# Altium integrated library custom_modulebit_Lib.IntLib: 41 symbols
Pins are listed as number, name and electrical type; pins without a type are passive.

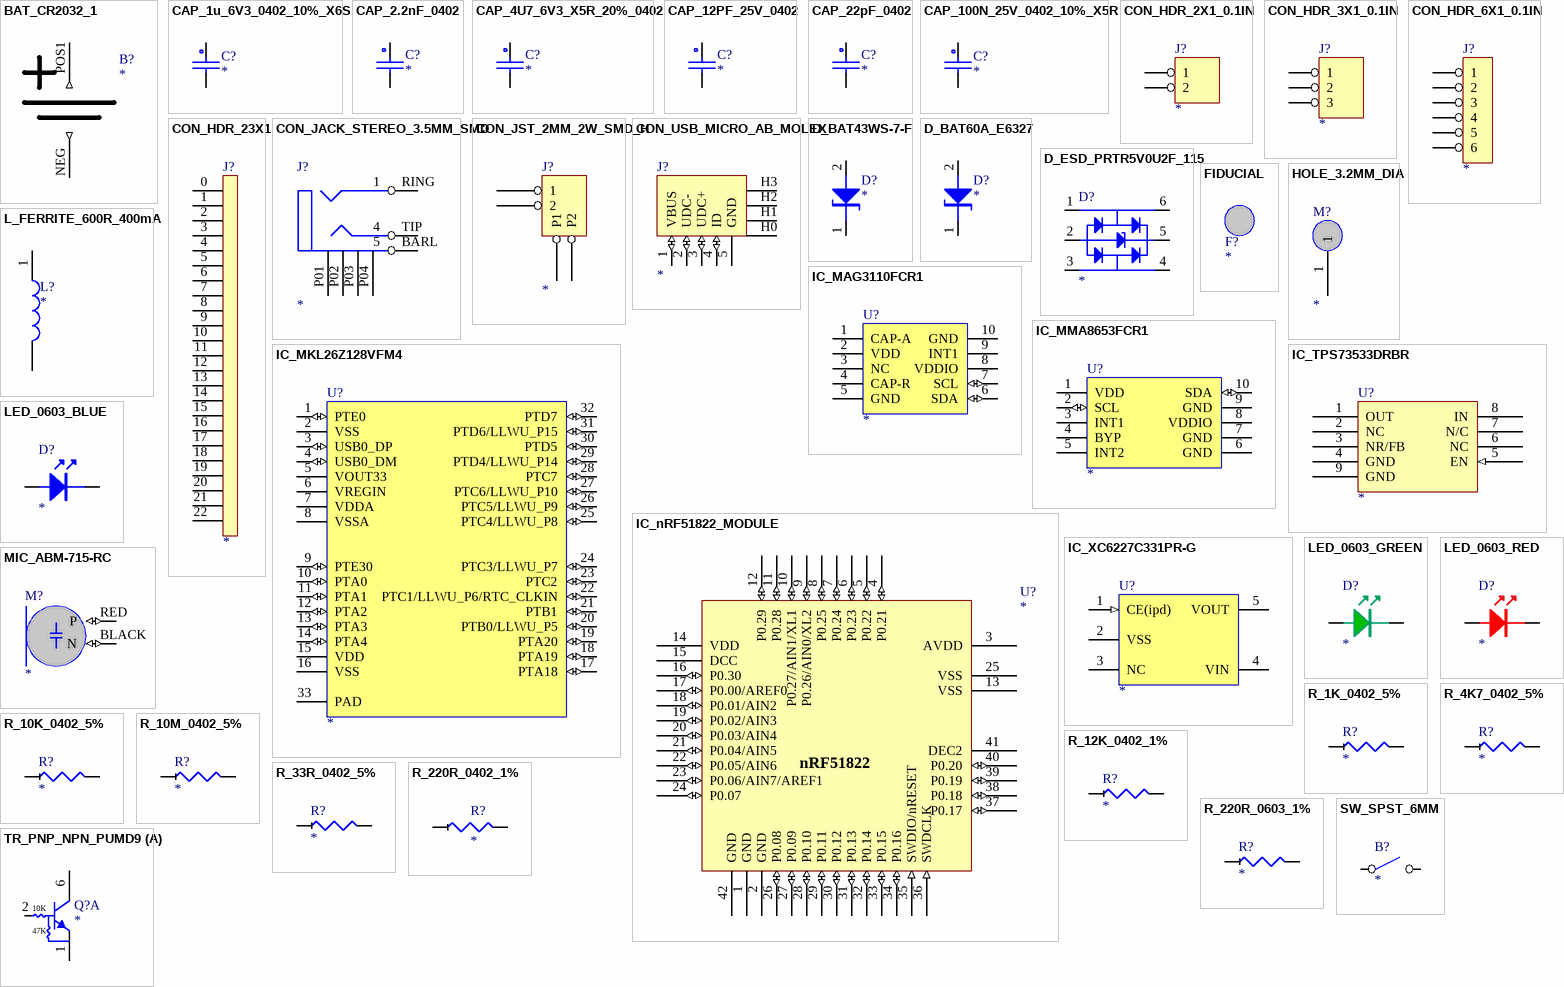
[diagram p0: symbols BAT_CR2032_1 to TR_PNP_NPN_PUMD9]

## BAT_CR2032_1
designator B?
CR2032 battery in holder; PART: *; MANUFACTURER: *; FARNELL: *; RS: *
footprint BAT_CR2032_CH7410-2032LF
pins: NEG (out), POS1 (out)
2 alternate drawings of the same symbol

## CAP_1u_6V3_0402_10%_X6S
designator C?
CAP_1u_6V3_0402_10%_X6S; MANUFACTURER: *; PART: *; FARNELL: *; MOUSER: *; DIGIKEY: *
footprint C_0402
pins: 1, 2
2 alternate drawings of the same symbol

## CAP_2.2nF_0402
designator C?
CAP_2.2nF_0402; FARNELL: *; PART: *; MANUFACTURER: *
footprint C_0402
pins: 1, 2
2 alternate drawings of the same symbol

## CAP_4U7_6V3_X5R_20%_0402
designator C?
CAP_4U7_6V3_X5R_20%_0402; PART: *; MANUFACTURER: *; FARNELL: *
footprint C_0805
footprint c_0402
pins: 1, 2
2 alternate drawings of the same symbol

## CAP_12PF_25V_0402
designator C?
CAP_12PF_25V_0402; FARNELL: *
footprint C_0402
pins: 1, 2
2 alternate drawings of the same symbol

## CAP_22pF_0402
designator C?
CAP 0402 C0G 50V 22PF; FARNELL: *; PART: *; MANUFACTURER: *
footprint c_0402
pins: 1, 2
2 alternate drawings of the same symbol

## CAP_100N_25V_0402_10%_X5R
designator C?
CAP_100N_25V_0402_10%_X5R; PART: *; MANUFACTURER: *; FARNELL: *
footprint C_0402
pins: 1, 2
2 alternate drawings of the same symbol

## CON_HDR_2X1_0.1IN
designator J?
2 PIN HEADER; FARNELL: *; MANUFACTURER: *; PART: *
footprint CON_HDR_2X1
pins: 1, 2
2 alternate drawings of the same symbol

## CON_HDR_3X1_0.1IN
designator J?
3 PIN HEADER; FARNELL: *; MANUFACTURER: *; PART: *
footprint CON_HDR_3X1
pins: 1, 2, 3
2 alternate drawings of the same symbol

## CON_HDR_6X1_0.1IN
designator J?
6 PIN HEADER; PART: *; FARNELL: *; MANUFACTURER: *
footprint CON_HDR_6X1
pins: 1, 2, 3, 4, 5, 6
2 alternate drawings of the same symbol

## CON_HDR_23X1
designator J?
0.1in HEADER STRIP 23X1; FARNELL: *; PART: *; MANUFACTURER: *
footprint CON_HDR_23X1
footprint CON_HDR_8X2_POL
pins: 0 (power), 1 (power), 2 (power), 3, 4, 5, 6, 7, 8, 9, 10, 11, 12, 13, 14, 15, 16, 17, 18, 19, 20, 21, 22
2 alternate drawings of the same symbol

## CON_JACK_STEREO_3.5MM_SMD
designator J?
3.5 MM STEREO SMT JACK SOCKET SMD; FARNELL: *; PART: *; MANUFACTURER: *
footprint CON_JACK_STEREO_3.5MM_SMT
pins: BARL, P01, P02, P03, P04, RING, TIP
2 alternate drawings of the same symbol
text: 1; 4; 5

## CON_JST_2MM_2W_SMD_H
designator J?
2 PIN 2MM SMT JST  CONNECTOR; PART: *; MANUFACTURER: *; DIGIKEY: *; FARNELL: *
footprint CON_JST_S2B-PH-SM4-TB
pins: 1, 2, P1, P2
2 alternate drawings of the same symbol

## CON_USB_MICRO_AB_MOLEX
designator J?
USB Micro-AB socket Molex 47589-0001; Farnell: *; PART: *; MANUFACTURER: *; RS: *
footprint CON_USB_MICRO_AB_MOLEX
pins: 1 VBUS (io), 2 UDC- (io), 3 UDC+ (io), 4 ID (io), 5 GND (power), H0 (power), H1 (power), H2 (power), H3 (power)
2 alternate drawings of the same symbol

## D_BAT43WS-7-F
designator D?
Schottky 200mA 30V 0.5uA@25Vr; FARNELL: *; MANUFACTURER: *; PART: *; DIGIKEY: *; MOUSER: *; RS: *
footprint SOD323
pins: 1 K, 2 A
2 alternate drawings of the same symbol

## D_BAT60A_E6327
designator D?
3A Schottky diode with extreme low V  F drop (typ. 0.12V at IF = 10mA); FARNELL: *; MANUFACTURER: *; PART: *
footprint SOD323
pins: 1 K, 2 A
2 alternate drawings of the same symbol

## D_ESD_PRTR5V0U2F_115
designator D?
Ultra low capacitance double rail-to-rail ESD protection; FARNELL: *; MANUFACTURER: *; PART: *
footprint SOT886
pins: 1, 2, 3, 4, 5, 6
2 alternate drawings of the same symbol

## FIDUCIAL
designator F?
FIDUCIAL - NO CONNECT; Text Field1: NOT A PART; NOFIT: *; MANUFACTURER: *; FARNELL: *; PART: *
footprint FIDUCIAL_OV
footprint FIDUCIAL_DIAG
pins: 1
2 alternate drawings of the same symbol

## HOLE_3.2MM_DIA
designator M?
HOLE, 3.2MM DIA FINISHED
footprint HOLE_3.2MM_DIA
pins: 1
2 alternate drawings of the same symbol

## IC_MAG3110FCR1
designator U?
Three-Axis Digital  Magnetometer; PART: *; MANUFACTURER: *; RS: *
footprint IC_QFN40P200X200X85-10M
pins: 1 CAP-A, 2 VDD (power), 3 NC, 4 CAP-R, 5 GND (power), 6 SDA (io), 7 SCL (io), 8 VDDIO (power), 9 INT1 (oc), 10 GND (power)
2 alternate drawings of the same symbol

## IC_MKL26Z128VFM4
designator U?
32bit ARM Cortex M0+ Microcontroller 48MHz 128 kB Flash 32-Pin QFN; PART: *; RS: *; MANUFACTURER: *
footprint IC_QFN50P500X500X100-32N
pins: 1 PTE0 (io), 2 VSS (power), 3 USB0_DP (io), 4 USB0_DM (io), 5 VOUT33 (power), 6 VREGIN (power), 7 VDDA (power), 8 VSSA (power), 9 PTE30 (io), 10 PTA0 (io), 11 PTA1 (io), 12 PTA2 (io), 13 PTA3 (io), 14 PTA4 (io), 15 VDD (power), 16 VSS (power), 17 PTA18 (io), 18 PTA19 (io), 19 PTA20 (io), 20 PTB0/LLWU_P5 (io), 21 PTB1 (io), 22 PTC1/LLWU_P6/RTC_CLKIN (io), 23 PTC2 (io), 24 PTC3/LLWU_P7 (io), 25 PTC4/LLWU_P8 (io), 26 PTC5/LLWU_P9 (io), 27 PTC6/LLWU_P10 (io), 28 PTC7 (io), 29 PTD4/LLWU_P14 (io), 30 PTD5 (io), 31 PTD6/LLWU_P15 (io), 32 PTD7 (io), 33 PAD (power)
2 alternate drawings of the same symbol

## IC_MMA8653FCR1
designator U?
3-Axis 10-bit Digital  Accelerometer; PART: *; MANUFACTURER: *; RS: *
footprint IC_QFN40P200X200X85-10M
pins: 1 VDD (power), 2 SCL (io), 3 INT1 (oc), 4 BYP, 5 INT2 (oc), 6 GND (power), 7 GND (power), 8 VDDIO (power), 9 GND (power), 10 SDA (io)
2 alternate drawings of the same symbol

## IC_nRF51822_MODULE
designator U?
RF System on a Chip - SoC 2.4GHz BT low Energy 256KB Flash 16KB Ram; MANUFACTURER: *; PART: *; FARNELL: *
footprint IC_nRF51822_MODULE
footprint IC_nRF51822_MODULE_PASTE
pins: 1 GND (power), 2 GND (power), 3 AVDD (power), 4 P0.21 (io), 5 P0.22 (io), 6 P0.23 (io), 7 P0.24 (io), 8 P0.25 (io), 9 P0.26/AIN0/XL2 (io), 10 P0.27/AIN1/XL1 (io), 11 P0.28 (io), 12 P0.29 (io), 13 VSS (power), 14 VDD (power), 15 DCC (power), 16 P0.30 (io), 17 P0.00/AREF0 (io), 18 P0.01/AIN2 (io), 19 P0.02/AIN3 (io), 20 P0.03/AIN4 (io), 21 P0.04/AIN5 (io), 22 P0.05/AIN6 (io), 23 P0.06/AIN7/AREF1 (io), 24 P0.07 (io), 25 VSS (power), 26 P0.08 (io), 27 P0.09 (io), 28 P0.10 (io), 29 P0.11 (io), 30 P0.12 (io), 31 P0.13 (io), 32 P0.14 (io), 33 P0.15 (io), 34 P0.16 (io), 35 SWDIO/nRESET (in), 36 SWDCLK (in), 37 P0.17 (io), 38 P0.18 (io), 39 P0.19 (io), 40 P0.20 (io), 41 DEC2 (power), 42 GND (power)
2 alternate drawings of the same symbol
text: nRF51822

## IC_TPS73533DRBR
designator U?
TPS735 500-mA 3V3, Low Quiescent Current, Ultra-Low Noise, High PSRR,  Low-Dropout Linear Regulator; PART: *; MANUFACTURER: *; DIGIKEY: *; FARNELL: *; MOUSER: *
footprint IC_QFN65P300X300X100-8M-TI
pins: 1 OUT (power), 2 NC, 3 NR/FB, 4 GND (power), 5 EN (in), 6 NC, 7 N/C, 8 IN (power), 9 GND (power)
2 alternate drawings of the same symbol

## IC_XC6227C331PR-G
designator U?
Linear Voltage Regulator IC Positive Fixed 1 Output 3.3V 700mA SOT-89-5; PART: *; MANUFACTURER: *; DIGIKEY: *
footprint SOT895
pins: 1 CE(ipd) (in), 2 VSS (power), 3 NC, 4 VIN (power), 5 VOUT (power)
2 alternate drawings of the same symbol

## L_FERRITE_600R_400mA
designator L?
FERRITE 600R 400mA 0.35R  IN 0603; MANUFACTURER: *; FARNELL: *; PART: *
footprint L_0603
pins: 1, 2
2 alternate drawings of the same symbol

## LED_0603_BLUE
designator D?
LED_0603_BLUE; FARNELL: *; MANUFACTURER: *; PART: *
footprint LED_0603
footprint LED_0603_BLUE
pins: A, K
2 alternate drawings of the same symbol

## LED_0603_GREEN
designator D?
LED_0603_GREEN; FARNELL: *; MANUFACTURER: *; PART: *
footprint LED_0603_GREEN
pins: A, K
2 alternate drawings of the same symbol

## LED_0603_RED
designator D?
LED RED 0603; FARNELL: *; MANUFACTURER: *; PART: *
footprint LED_0603_RED
pins: A, K
2 alternate drawings of the same symbol

## MIC_ABM-715-RC
designator M?
PRO SIGNAL  ABM-715-RC  ELECTRET MICROPHONE OMNI LEADS; MANUFACTURER: *; FARNELL: *; PART: *
footprint MIC_ABM-715-RC
pins: BLACK N (io), RED P (io)
2 alternate drawings of the same symbol

## R_1K_0402_5%
designator R?
R_1K_0402_5%; FARNELL_ROHS: *; FARNELL: *
footprint R_0402
pins: 1, 2
2 alternate drawings of the same symbol

## R_4K7_0402_5%
designator R?
R_4K7_0402_5%; Text Field1: 3898635; FARNELL_ROHS: *
footprint R_0402
pins: 1, 2
2 alternate drawings of the same symbol

## R_10K_0402_5%
designator R?
R_10K_0402_5%; FARNELL_ROHS: *; FARNELL: *
footprint R_0402
pins: 1, 2
2 alternate drawings of the same symbol

## R_10M_0402_5%
designator R?
R_10M_0402_5%; PART: *; MANUFACTURER: *; FARNELL: *
footprint R_0402
pins: 1, 2
2 alternate drawings of the same symbol

## R_12K_0402_1%
designator R?
R_12K_0402_1%; FARNELL_ROHS: *; FARNELL: *
footprint R_0402
pins: 1, 2
2 alternate drawings of the same symbol

## R_33R_0402_5%
designator R?
R_33R_0402_5%; Text Field1: 3898507; FARNELL_ROHS: *
footprint R_0402
pins: 1, 2
2 alternate drawings of the same symbol

## R_220R_0402_1%
designator R?
R_220R_0402_1%
footprint R_0402
pins: 1, 2

## R_220R_0603_1%
designator R?
R_220R_0603_1%; Text Field1: 9330801; Text Field2: vnr160; Text Field3: Yes; Text Field4: 502-468-00-00-RES*-BP; FARNELL_ROHS: *
footprint R_0603
pins: 1, 2
2 alternate drawings of the same symbol

## SW_SPST_6MM
designator B?
SPST SWITCH 6MM; PART: *; MANUFACTURER: *; FARNELL: *
footprint SW_FSM4JSMA
pins: 1, 2
2 alternate drawings of the same symbol

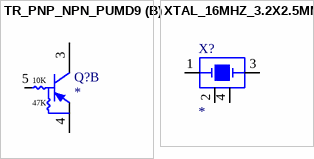
[diagram p1: symbols TR_PNP_NPN_PUMD9 to XTAL_16MHZ_3.2X2.5MM]

## TR_PNP_NPN_PUMD9
designator Q?
NXP - PUMD9 - TRANSISTOR, DIGITAL, NPN+PNP SOT-363; PackageReference: *; Code_IPC: *; FARNELL: *; PART: *; MANUFACTURER: *
footprint SOT363_N
footprint SOT363_L
footprint SOT363_M
part A pins: 1 E, 2 B, 6 C
part B pins: 3 C, 4 E, 5 B
2 alternate drawings of the same symbol
part A text: 10K; 47K
part B text: 10K; 47K

## XTAL_16MHZ_3.2X2.5MM
designator X?
CRYSTAL 16MHZ 20PF_3.2X2.5MM; DIGIKEY: *; MANUFACTURER: *; PART: *
footprint XTAL_3.2X2.5MM
pins: 1 X1, 2 G2, 3 X3, 4 G4
2 alternate drawings of the same symbol